# Altium footprint library ANT_PCB_NORDIC.PcbLib: 1 footprints
Each footprint in its own frame and in the unit in brackets; x right, y up, seen from the top. Pads: shape width x height; smd on the part's side, far side on the other; paste and mask are expansions set on the pad; w line width, h text height; cw(c..) or ccw(c..) is an arc to the next point about the centre after c.
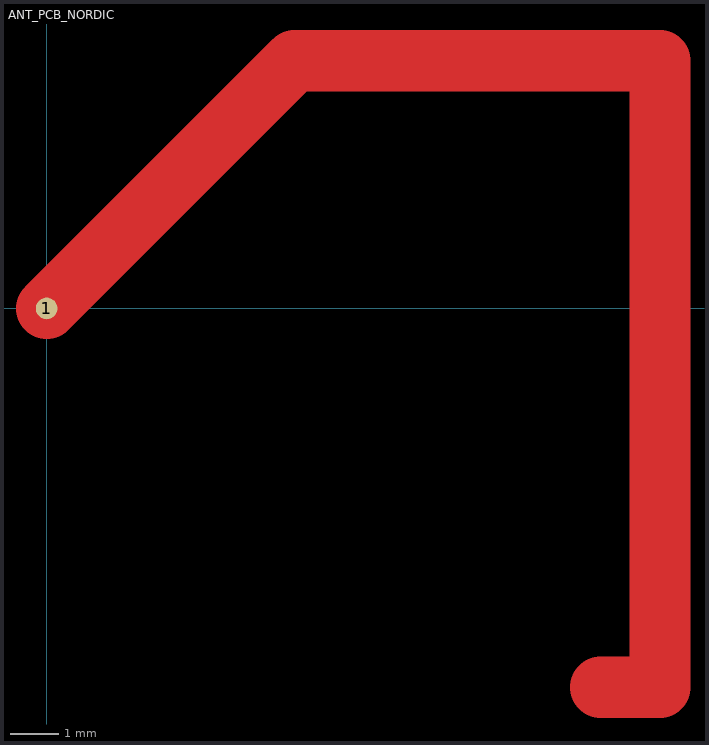
[diagram p0: the footprint, top view; thin cyan lines are the x and y axes]

## ANT_PCB_NORDIC [mm]
pads (1):
  round 0.45 smd: 1(0,0)
Top Layer:
  lines w0.762: 12.702,-7.821 12.956,-7.796
  lines w1.27: 0,0 5.133,5.133 12.702,5.133 12.702,-7.821 ; 11.476,-7.847 12.702,-7.847
Top Solder:
  lines w0.635: -0.047,-0.038 5.123,5.133 ; 5.133,5.133 12.702,5.133 12.702,-7.847 11.476,-7.847